# Altium footprint library son_8_p127_600x500x100.PcbLib: 1 footprints
Each footprint in its own frame and in the unit in brackets; x right, y up, seen from the top. Pads: shape width x height; smd on the part's side, far side on the other; paste and mask are expansions set on the pad; w line width, h text height; cw(c..) or ccw(c..) is an arc to the next point about the centre after c.
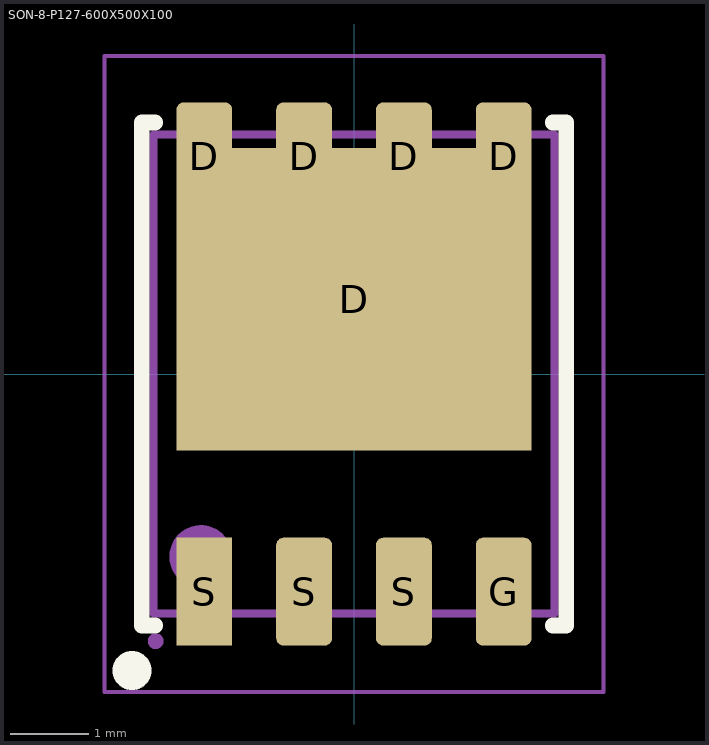
[diagram p0: the footprint, top view; thin cyan lines are the x and y axes]

## SON-8-P127-600X500X100 [mm] "SON, 8-Leads, Body 6,00x5,00mm, Pitch 1,27mm, Thermal Pad 4,44x4,52mm,IPC Medium Density"
height 1
pads (9):
  rrect25% 0.71x1.372 smd paste-10: D(-1.905,2.77) D(-0.635,2.77) D(0.635,2.77) D(1.905,2.77)
  rect 4.52x3.85 smd paste-10: D(0,0.95)
  rrect25% 0.71x1.372 smd paste-0.002: G(1.905,-2.77) S(-0.635,-2.77) S(0.635,-2.77)
  rect 0.71x1.372 smd paste-0.002: S(-1.905,-2.77)
Top Overlay:
  circle w0.5: c-2.825,-3.775 r0
  lines w0.2: -2.53,-3.2 -2.7,-3.2 -2.7,3.2 -2.53,3.2 ; 2.53,-3.2 2.7,-3.2 2.7,3.2 2.53,3.2
Top Paste:
  region: 2.225,1.025 2.225,2.575 0.175,2.575 0.175,1.025
  region: 2.227,-0.925 2.227,0.725 0.177,0.725 0.177,-0.925
  region: -0.177,-0.925 -0.177,0.725 -2.227,0.725 -2.227,-0.925
  region: -0.175,1.025 -0.175,2.575 -2.225,2.575 -2.225,1.025
  region: -2.25,2.913 -2.25,3.36 -2.25,3.378 -2.236,3.411 -2.211,3.436 -2.178,3.45 -2.16,3.45 -1.65,3.45 -1.632,3.45 -1.599,3.436 -1.574,3.411 -1.56,3.378 -1.56,3.36 -1.56,2.936 -1.56,2.919 -1.573,2.887 -1.597,2.863 -1.629,2.85 -1.646,2.85 -2.187,2.85 -2.199,2.85 -2.222,2.86 -2.24,2.877 -2.25,2.9
  region: -0.98,2.913 -0.98,3.36 -0.98,3.378 -0.966,3.411 -0.941,3.436 -0.908,3.45 -0.89,3.45 -0.38,3.45 -0.362,3.45 -0.329,3.436 -0.304,3.411 -0.29,3.378 -0.29,3.36 -0.29,2.936 -0.29,2.919 -0.303,2.887 -0.327,2.863 -0.359,2.85 -0.376,2.85 -0.917,2.85 -0.929,2.85 -0.952,2.86 -0.97,2.877 -0.98,2.9
  region: 0.29,2.913 0.29,3.36 0.29,3.378 0.304,3.411 0.329,3.436 0.362,3.45 0.38,3.45 0.89,3.45 0.908,3.45 0.941,3.436 0.966,3.411 0.98,3.378 0.98,3.36 0.98,2.936 0.98,2.919 0.967,2.887 0.943,2.863 0.911,2.85 0.894,2.85 0.353,2.85 0.341,2.85 0.318,2.86 0.3,2.877 0.29,2.9
  region: 1.56,2.913 1.56,3.36 1.56,3.378 1.574,3.411 1.599,3.436 1.632,3.45 1.65,3.45 2.16,3.45 2.178,3.45 2.211,3.436 2.236,3.411 2.25,3.378 2.25,3.36 2.25,2.936 2.25,2.919 2.237,2.887 2.213,2.863 2.181,2.85 2.164,2.85 1.623,2.85 1.611,2.85 1.588,2.86 1.57,2.877 1.56,2.9
  lines w0.05: -2.225,-0.925 -0.175,-0.925 -0.175,0.725 -2.225,0.725 -2.225,-0.925 ; -2.225,1.025 -0.175,1.025 -0.175,2.575 -2.225,2.575 -2.225,1.025 ; 0.175,-0.925 2.225,-0.925 2.225,0.725 0.175,0.725 0.175,-0.925 ; 0.175,1.025 0.175,2.575 2.225,2.575 2.225,1.025 0.175,1.025
Top Comment:
  text ".Comment" at 1,4.5 h1.2
Top Designator:
  text ".Designator" at -0.4,4.5 h1.2
Top Component Outline:
  circle w0.4: c-1.95,-2.325 r0.2
  circle w0.1: c-2.525,-3.4 r0.05
  lines w0.1: -2.55,-3.05 2.55,-3.05 2.55,3.05 -2.55,3.05 -2.55,-3.05
Top Courtyard (Mech15):
  lines w0.05: -3.175,-4.05 3.175,-4.05 3.175,4.05 -3.175,4.05 -3.175,-4.05
  lines w0.1: -0.5,0 0.5,0 ; 0,-0.5 0,0.5
3D body "SON-8.STEP": height 1.05, standoff 0, extent -2.484,-3.055 2.516,2.945